# EAGLE library part LT3652*-? (library IC_Power-Management)
Power Tracking 2A Battery Charger for Solar Power Datasheet <https://www.analog.com/media/en/technical-documentation/data-sheets/3652fe.pdf>
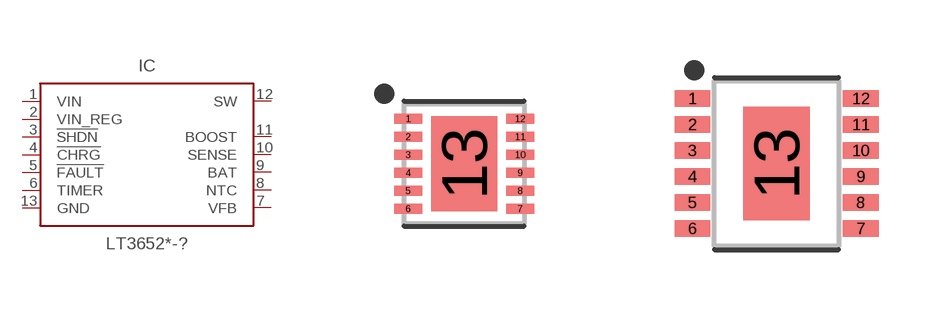
[diagram p21: symbol with the pads of SON45P300X300X80-13T165X238; footprints SON45P300X300X80-13T165X238, SOP65P490X110-13T165X284]

Designator prefix IC

## LT3652EDD#PBF-DFN (CATEGORY: IC_Power-Management; DESCRIPTION: Charger IC Multi-Chemistry 12-DFN (3x3); MANUFACTURER: Analog Devices; MPN: LT3652EDD#PBF; OPERATING_TEMP: –40°C to 125°C; PART_STATUS: Active; ROHS_COMPLIANT: COMPLIANT; SERIES: LT3652; SUB-CATEGORY: Battery Charger; VALUE: LT3652), LT3652EDD#TRPBF-DFN (CATEGORY: IC_Power-Management; DESCRIPTION: Charger IC Multi-Chemistry 12-DFN (3x3); MANUFACTURER: Analog Devices; MPN: LT3652EDD#TRPBF; OPERATING_TEMP: –40°C to 125°C; PART_STATUS: Active; ROHS_COMPLIANT: COMPLIANT; SERIES: LT3652; SUB-CATEGORY: Battery Charger; VALUE: LT3652), LT3652IDD#PBF-DFN (CATEGORY: IC_Power-Management; DESCRIPTION: Charger IC Multi-Chemistry 12-DFN (3x3); MANUFACTURER: Analog Devices; MPN: LT3652IDD#PBF; OPERATING_TEMP: –40°C to 125°C; PART_STATUS: Active; ROHS_COMPLIANT: COMPLIANT; SERIES: LT3652; SUB-CATEGORY: Battery Charger; VALUE: LT3652), LT3652IDD#TRPBF-DFN (CATEGORY: IC_Power-Management; DESCRIPTION: Charger IC Multi-Chemistry 12-DFN (3x3); MANUFACTURER: Analog Devices; MPN: LT3652IDD#TRPBF; OPERATING_TEMP: –40°C to 125°C; PART_STATUS: Active; ROHS_COMPLIANT: COMPLIANT; SERIES: LT3652; SUB-CATEGORY: Battery Charger; VALUE: LT3652)  [SON45P300X300X80-13T165X238]
1  VIN  pwr
2  VIN_REG  pwr
3  !SHDN  in
4  !CHRG  out
5  !FAULT  out
6  TIMER  pas
7  VFB  out
8  NTC  in
9  BAT  out
10  SENSE  pas
11  BOOST  pas
12  SW  out
13  GND  pwr

## LT3652EMSE#PBF-MSOP (CATEGORY: IC_Power-Management; DESCRIPTION: Charger IC Multi-Chemistry 12-MSOP-EP; MANUFACTURER: Analog Devices; MPN: LT3652EMSE#PBF; OPERATING_TEMP: –40°C to 125°C; PART_STATUS: Active; ROHS_COMPLIANT: COMPLIANT; SERIES: LT3652; SUB-CATEGORY: Battery Charger; VALUE: LT3652), LT3652EMSE#TRPBF-MSOP (CATEGORY: IC_Power-Management; DESCRIPTION: Charger IC Multi-Chemistry 12-MSOP-EP; MANUFACTURER: Analog Devices; MPN: LT3652EMSE#TRPBF; OPERATING_TEMP: –40°C to 125°C; PART_STATUS: Active; ROHS_COMPLIANT: COMPLIANT; SERIES: LT3652; SUB-CATEGORY: Battery Charger; VALUE: LT3652), LT3652IMSE#PBF-MSOP (CATEGORY: IC_Power-Management; DESCRIPTION: Charger IC Multi-Chemistry 12-MSOP-EP; MANUFACTURER: Analog Devices; MPN: LT3652IMSE#PBF; OPERATING_TEMP: –40°C to 125°C; PART_STATUS: Active; ROHS_COMPLIANT: COMPLIANT; SERIES: LT3652; SUB-CATEGORY: Battery Charger; VALUE: LT3652), LT3652IMSE#TRPBF-MSOP (CATEGORY: IC_Power-Management; DESCRIPTION: Charger IC Multi-Chemistry 12-MSOP-EP; MANUFACTURER: Analog Devices; MPN: LT3652IMSE#TRPBF; OPERATING_TEMP: –40°C to 125°C; PART_STATUS: Active; ROHS_COMPLIANT: COMPLIANT; SERIES: LT3652; SUB-CATEGORY: Battery Charger; VALUE: LT3652)  [SOP65P490X110-13T165X284]
Pads as for SON45P300X300X80-13T165X238

## Footprint SON45P300X300X80-13T165X238 (pad centres in mm)
12-SON (DFN), 0.45 mm pitch, 3.00 X 3.00 X 0.80 mm body, 2.38 X 1.65 mm thermal pad 12-pin SON (DFN) package with 0.45mm pitch, with body size 3.00 X 3.00 X 0.80 mm and thermal pad size 2.38 X 1.65 mm
smd 0.7 x 0.25: 1 -1.4,1.125; 2 -1.4,0.675; 3 -1.4,0.225; 4 -1.4,-0.225; 5 -1.4,-0.675; 6 -1.4,-1.125; 7 1.4,-1.125; 8 1.4,-0.675; 9 1.4,-0.225; 10 1.4,0.225; 11 1.4,0.675; 12 1.4,1.125
smd 1.65 x 2.38: 13 0,0

## Footprint SOP65P490X110-13T165X284 (pad centres in mm)
12-SOP, 0.65 mm pitch, 4.90 mm span, 4.04 X 3.00 X 1.10 mm body, 2.84 X 1.65 mm thermal pad 12-pin SOP package with 0.65 mm pitch, 4.90 mm span with body size 4.04 X 3.00 X 1.10 mm and thermal pad size 2.84 X 1.65 mm
smd 0.889 x 0.42: 1 -2.106,1.625; 2 -2.106,0.975; 3 -2.106,0.325; 4 -2.106,-0.325; 5 -2.106,-0.975; 6 -2.106,-1.625; 7 2.106,-1.625; 8 2.106,-0.975; 9 2.106,-0.325; 10 2.106,0.325; 11 2.106,0.975; 12 2.106,1.625
smd 1.651 x 2.845: 13 0,0